# Altium footprint library ExpressCardConnectors.PcbLib: 1 footprints
Each footprint in its own frame and in the unit in brackets; x right, y up, seen from the top. Pads: shape width x height; smd on the part's side, far side on the other; paste and mask are expansions set on the pad; w line width, h text height; cw(c..) or ccw(c..) is an arc to the next point about the centre after c.
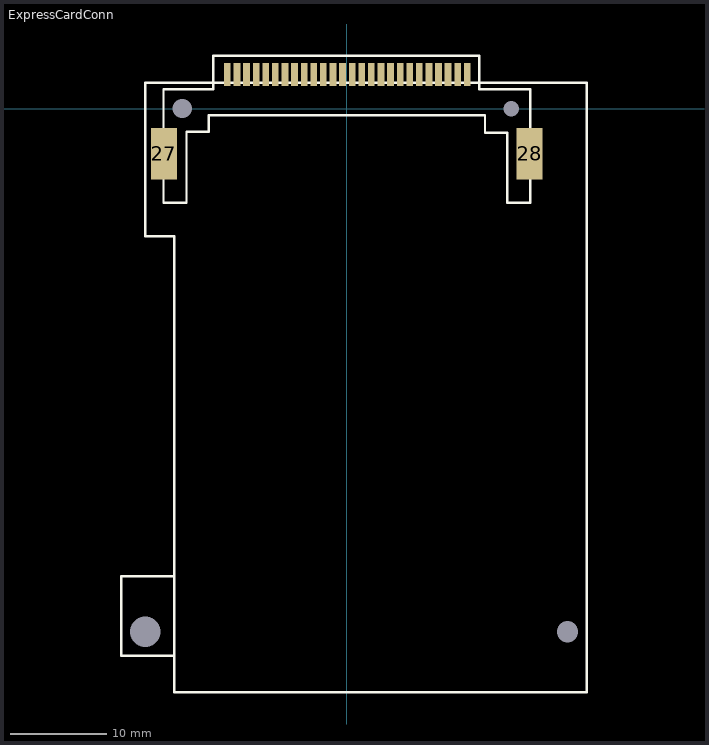
[diagram p0: the footprint, top view; thin cyan lines are the x and y axes]

## ExpressCardConn [mm]
pads (32):
  rect 0.7x2.4 smd: 1(-12.446,3.556) 2(-11.446,3.556) 3(-10.446,3.556) 4(-9.446,3.556) 5(-8.446,3.556) 6(-7.446,3.556) 7(-6.446,3.556) 8(-5.446,3.556) 9(-4.446,3.556) 10(-3.446,3.556) 11(-2.446,3.556) 12(-1.446,3.556) 13(-0.446,3.556) 14(0.554,3.556) 15(1.554,3.556) 16(2.554,3.556) 17(3.554,3.556) 18(4.554,3.556) 19(5.554,3.556) 20(6.554,3.556) 21(7.554,3.556) 22(8.554,3.556) 23(9.554,3.556) 24(10.554,3.556) 25(11.554,3.556) 26(12.554,3.556)
  rect 2.7x5.4 smd: 27(-19.05,-4.699) 28(19.05,-4.699)
  round 0 hole 3.2: ""(-21,-54.5)
  round 0 hole 2: ""(-17.145,0)
  round 0 hole 1.6: ""(17.145,0)
  round 0 hole 2.2: ""(23,-54.5)
Top Overlay:
  lines w0.254: -18,-57 -23.5,-57 -23.5,-48.7 -18,-48.7 ; -21,-13.3 -18,-13.3 -18,-60.8 25,-60.8 25,2.7 -21,2.7 -21,-13.3 ; -19.1,-9.8 -16.7,-9.8 -16.7,-2.4 -14.4,-2.4 -14.4,-0.7 14.4,-0.7 14.4,-2.5 16.7,-2.5 16.7,-9.8 19.1,-9.8 19.1,2 13.8,2 13.8,5.5 -13.9,5.5 -13.9,2 -19.1,2 -19.1,-2.4 -19.1,-9.8
3D body: height 8, standoff 0, extent -20.999,-60.799 24.999,2.699